# Altium schematic symbol library Lib Marius.SchLib: 259 symbols (part 1 of 3)
Pins are listed as number, name and electrical type; pins without a type are passive.

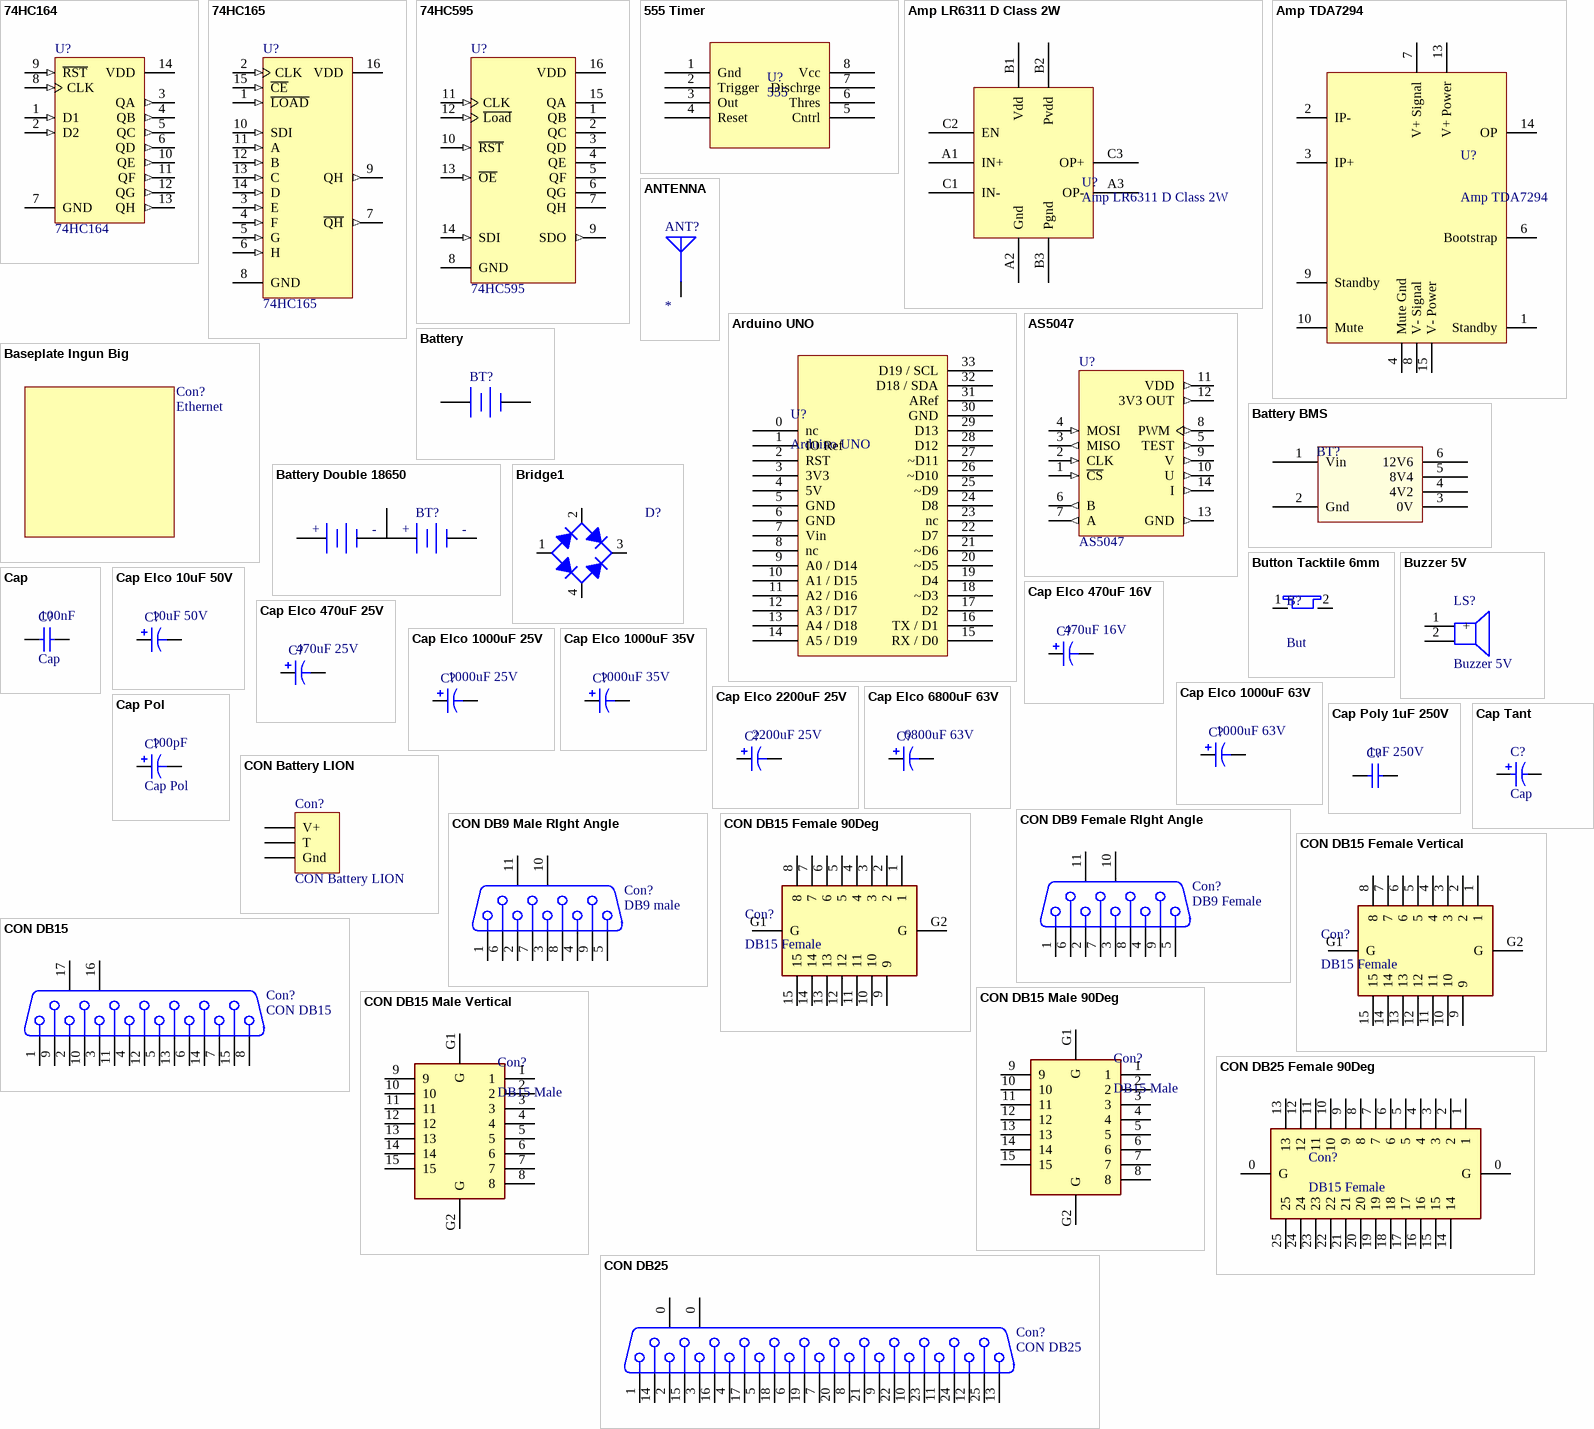
[diagram p0: symbols 74HC164 to CON DB25 Female 90Deg]

## 74HC164
designator U?
8-Bit Serial-Input/Parallel-Output Shift Register; Published: 17-Jul-2002; LatestRevisionDate: 06-Jun-2005; LatestRevisionNote: Stylized 3D Model Added; DatasheetVersion: 1989; PackageReference: 632-08; Publisher: Altium Limited; PackageDescription: DIP; 14 Leads; Row Spacing 7.62 mm; Pitch 2.54 mm; ComponentLink1Description: Manufacturer Link; ComponentLink1URL: http://www.onsemi.com/site/products/parametrics/0,4446,557,00.html
signal-integrity model MC54HC164J
footprint SOIC-14 (SOIC, 14-Leads, Body 8.7x3.9mm, Pitch 1.27mm, IPC Low Density)
3D model SOIC-14 (PCB3D Model)
pins: 1 D1 (in), 2 D2 (in), 3 QA (out), 4 QB (out), 5 QC (out), 6 QD (out), 7 GND (power), 8 CLK (in), 9 ~{RST} (in), 10 QE (out), 11 QF (out), 12 QG (out), 13 QH (out), 14 VDD (power)

## 74HC165
designator U?
8-Bit Serial-or-Parallel-Input/Serial-Output Shift Register; Published: 17-Jul-2002; LatestRevisionDate: 06-Jun-2005; LatestRevisionNote: Stylized 3D Model Added; DatasheetVersion: 1989; PackageReference: 620-09; Publisher: Altium Limited; PackageDescription: DIP; 16 Leads; Row Spacing 7.62 mm; Pitch 2.54 mm; Code_JEDEC: MS-001-BB; ComponentLink1Description: Manufacturer Link; ComponentLink1URL: http://www.onsemi.com/site/products/parametrics/0,4446,557,00.html
footprint SOIC 16 (SOIC, 16-Leads, Body 10.0x4.0mm (max), Pitch 1.27mm, IPC Medium Density)
pins: 1 ~{LOAD} (in), 2 CLK (in), 3 E (in), 4 F (in), 5 G (in), 6 H (in), 7 ~{QH} (out), 8 GND (power), 9 QH (out), 10 SDI (in), 11 A (in), 12 B (in), 13 C (in), 14 D (in), 15 ~{CE} (in), 16 VDD (power)

## 74HC595
designator U?
8-Bit Serial-Input/Serial-orShift Register with Latched 3-State Outputs; Published: 17-Jul-2002; LatestRevisionDate: 06-Jun-2005; LatestRevisionNote: Stylized 3D Model Added; DatasheetVersion: 1989; PackageReference: 620-09; Publisher: Altium Limited; PackageDescription: DIP; 16 Leads; Row Spacing 7.62 mm; Pitch 2.54 mm; Code_JEDEC: MS-001-BB; ComponentLink1Description: Manufacturer Link; ComponentLink1URL: http://www.onsemi.com/site/products/parametrics/0,4446,557,00.html
footprint SOIC 16 (SOIC, 16-Leads, Body 10.0x4.0mm (max), Pitch 1.27mm, IPC Medium Density)
pins: 1 QB (hiz), 2 QC (hiz), 3 QD (hiz), 4 QE (hiz), 5 QF (hiz), 6 QG (hiz), 7 QH (hiz), 8 GND (power), 9 SDO (out), 10 ~{RST} (in), 11 CLK (in), 12 ~{Load} (in), 13 ~{OE} (in), 14 SDI (in), 15 QA (hiz), 16 VDD (power)

## 555 Timer
designator U?, comment 555
Timer; Published: 8-Jun-2000; LatestRevisionDate: 29-May-2009; LatestRevisionNote: IPC-7351 Footprint Added.; PackageVersion: Aug-1999; PackageReference: SOT-23B; Publisher: Altium Limited; PackageDescription: 3-Pin SOT-23 Package 0.95 mm Pitch, 2.4 mm Lead Span; Supplier 1: Newark; Supplier Part Number 1: 45J1498
simulation model PNP
signal-integrity model PNP
footprint DIP-8 (DIP; 8 Leads; Row Spacing 7.62 mm; Pitch 2.54 mm)
pins: 1 Gnd, 2 Trigger, 3 Out, 4 Reset, 5 Cntrl, 6 Thres, 7 Dischrge, 8 Vcc

## Amp LR6311 D Class 2W
designator U?
Class D Amplifier; Published: 8-Jun-2000; LatestRevisionDate: 29-May-2009; LatestRevisionNote: Sch pins A & K swapped.; DatasheetVersion: E2732B; PackageReference: D-38; Publisher: Altium Limited; PackageDescription: Bridge Rectifier; 4 Terminals; Body 9.4 x 9.4 mm (typ); Pitch 5.08 mm
footprint LC6311 (Amplifier D Class)
pins: A1 IN+, A2 Gnd, A3 OP-, B1 Vdd, B2 Pvdd, B3 Pgnd, C1 IN-, C2 EN, C3 OP+

## Amp TDA7294
designator U?
100W Amplifier Class AB; Published: 8-Jun-2000; LatestRevisionDate: 17-Jul-2002; LatestRevisionNote: Re-released for DXP Platform.; PackageReference: RAD-0.3; Publisher: Altium Limited; PackageDescription: Radial Cap, Thru-Hole; 2 Leads; 0.3 in Pin Spacing
footprint Multiwatt15
pins: 1 Standby, 2 IP-, 3 IP+, 4 Mute Gnd, 6 Bootstrap, 7 V+ Signal, 8 V- Signal, 9 Standby, 10 Mute, 13 V+ Power, 14 OP, 15 V- Power

## ANTENNA
designator ANT?
footprint PATCH_ANTENNA
pins: 1

## Arduino UNO
designator U?
footprint Arduino UNO (Arduino)
pins: 0 nc, 1 IO Ref, 2 RST, 3 3V3, 4 5V, 5 GND, 6 GND, 7 Vin, 8 nc, 9 A0 / D14, 10 A1 / D15, 11 A2 / D16, 12 A3 / D17, 13 A4 / D18, 14 A5 / D19, 15 RX / D0, 16 TX / D1, 17 D2, 18 ~D3, 19 D4, 20 ~D5, 21 ~D6, 22 D7, 23 nc, 24 D8, 25 ~D9, 26 ~D10, 27 ~D11, 28 D12, 29 D13, 30 GND, 31 ARef, 32 D18 / SDA, 33 D19 / SCL

## AS5047
designator U?
14Bit Rotation Hall Effect Sensor; Published: 17-Jul-2002; LatestRevisionDate: 06-Jun-2005; LatestRevisionNote: Stylized 3D Model Added; DatasheetVersion: 1989; PackageReference: 632-08; Publisher: Altium Limited; PackageDescription: DIP; 14 Leads; Row Spacing 7.62 mm; Pitch 2.54 mm; ComponentLink1Description: Manufacturer Link; ComponentLink1URL: http://www.onsemi.com/site/products/parametrics/0,4446,557,00.html
footprint SOIC 14 Wide (SOIC, 14-Leads, Body 5 x 4.4mm (max), Pitch 0.65mm)
pins: 1 ~{CS} (in), 2 CLK (in), 3 MISO (out), 4 MOSI (in), 5 TEST (out), 6 B (out), 7 A (out), 8 PWM (out), 9 V (out), 10 U (out), 11 VDD (out), 12 3V3 OUT (out), 13 GND (out), 14 I (out)

## Baseplate Ingun Big
designator Con?, comment Ethernet
Receptacle Assembly, 9 Position, Right Angle; PackageDocument: O; Positions: 9; Published: 15-Jun-2001; LatestRevisionDate: 17-Jul-2002; LatestRevisionNote: Re-released for DXP Platform.; DatasheetDocument: 1-Sep-1999; PackageReference: 788750; Publisher: Altium Limited; Orientation: Right Angle; Gender: Receptacle
signal-integrity model Connector
footprint CON Ethernet with Transorfmer (Ethernet with LED and transformer)

## Battery
designator BT?
Multicell Battery; Published: 24-Mar-1999; LatestRevisionDate: 17-Jul-2002; LatestRevisionNote: Re-released for DXP Platform.; PackageReference: BAT-2; Publisher: Altium Limited; PackageDescription: Battery; 2 Leads
footprint Battery CR2032 (Axial Device, Thru-Hole; 2 Leads; 7.5mm Pin Spacing)
footprint Battery LR44 SMD (Axial Device, Thru-Hole; 2 Leads; 7.5mm Pin Spacing)
footprint Battery LR44 SMD2 (Axial Device, Thru-Hole; 2 Leads; 7.5mm Pin Spacing)
footprint Battery Holder 18650 (Single 18650 Lithium battery holder)
pins: 1 +, 2 -

## Battery BMS
designator BT?
Multicell Battery; Published: 24-Mar-1999; LatestRevisionDate: 17-Jul-2002; LatestRevisionNote: Re-released for DXP Platform.; PackageReference: BAT-2; Publisher: Altium Limited; PackageDescription: Battery; 2 Leads
footprint Battery BMS (Multicell charger board)
pins: 1 Vin, 2 Gnd, 3 0V, 4 4V2, 5 8V4, 6 12V6

## Battery Double 18650
designator BT?
Multicell Lithium Battery; Published: 24-Mar-1999; LatestRevisionDate: 17-Jul-2002; LatestRevisionNote: Re-released for DXP Platform.; PackageReference: BAT-2; Publisher: Altium Limited; PackageDescription: Battery; 2 Leads
footprint Battery Holder 18650 (Double 18650 Lithium battery holder)
pins: 1 Pos, 2 Join, 3 Neg
text: +; -

## Bridge1
designator D?
Full Wave Diode Bridge; Published: 8-Jun-2000; LatestRevisionDate: 29-May-2009; LatestRevisionNote: Sch pins A & K swapped.; DatasheetVersion: E2732B; PackageReference: D-38; Publisher: Altium Limited; PackageDescription: Bridge Rectifier; 4 Terminals; Body 9.4 x 9.4 mm (typ); Pitch 5.08 mm
simulation model BRIDGE (Spice Subcircuit)
footprint Bridge 10.67 (Bridge Rectifier; 4 Terminals; Body 16.8 x 16.8 mm (typ); Pitch 10.67 mm)
footprint Brigde 5.98 (Bridge Rectifier; 4 Terminals; Body 9.4 x 9.4 mm (typ); Pitch 5.08 mm)
footprint Bridge 2A 2W10 (Axial Device, Thru-Hole; 2 Leads; 10.2mm Pin Spacing)
footprint Bridge SMD 1A (SMD DFS)
pins: 1 K, 2 C, 3 A, 4 C

## Button Tacktile 6mm
designator B?, comment But
Capacitor; Published: 8-Jun-2000; LatestRevisionDate: 17-Jul-2002; LatestRevisionNote: Re-released for DXP Platform.; PackageReference: RAD-0.3; Publisher: Altium Limited; PackageDescription: Radial Cap, Thru-Hole; 2 Leads; 0.3 in Pin Spacing
footprint Button Tack 5mm (Axial Device, Thru-Hole; 2 Leads; 10.2mm Pin Spacing)
pins: 1 Gnd, 2 Gnd

## Buzzer 5V
designator LS?
Buzzer; Published: 24-Mar-1999; LatestRevisionDate: 17-Jul-2002; LatestRevisionNote: Re-released for DXP Platform.; PackageReference: PIN2; Publisher: Altium Limited
footprint BUZZER 12mm 5V (Buzzer 12mm)
pins: 1 +, 2

## Cap
designator C?  value 100nF
Capacitor; Published: 8-Jun-2000; LatestRevisionDate: 17-Jul-2002; LatestRevisionNote: Re-released for DXP Platform.; PackageReference: RAD-0.3; Publisher: Altium Limited; PackageDescription: Radial Cap, Thru-Hole; 2 Leads; 0.3 in Pin Spacing
simulation model CAP (Capacitor)
signal-integrity model Cap
footprint Cap Ceramic 0.1uF (Capacitor Ceramic)
footprint Cap 0603 (Capacitor 0603)
footprint Cap 0805 (Capacitor 0805)
footprint Cap 1206 (Capacitor 1206)
footprint Cap 1210 (Capacitor 1210)
footprint Cap Poly 12x7 (Capacitor Polyester)
footprint Cap Poly 14x9 (Capacitor Polyester)
footprint Cap Poly 18x12 (Capacitor Polyester)
footprint Cap Poly 28x14 (Capacitor Polyester)
pins: 1, 2

## Cap Elco 10uF 50V
designator C?, comment value 10uF 50V  (hidden comment: Cap Elco)
Polarized Capacitor (Axial); Published: 8-Jun-2000; LatestRevisionDate: 17-Jul-2002; LatestRevisionNote: Re-released for DXP Platform.; PackageReference: POLAR0.8; Publisher: Altium Limited; PackageDescription: Polarized Capacitor; 2 Leads
simulation model CAP (Capacitor)
footprint Cap D5xH7xP2 (Capacitor Electro)
pins: 1, 2
1 alternate drawing of the same symbol

## Cap Elco 470uF 16V
designator C?, comment value 470uF 16V  (hidden comment: 1000uF 16V)
Polarized Capacitor; Published: 8-Jun-2000; LatestRevisionDate: 17-Jul-2002; LatestRevisionNote: Re-released for DXP Platform.; PackageReference: POLAR0.8; Publisher: Altium Limited; PackageDescription: Polarized Capacitor; 2 Leads
simulation model CAP (Capacitor)
footprint Cap D8xH11xP3.5 (Capacitor Electro)
pins: 1, 2
1 alternate drawing of the same symbol

## Cap Elco 470uF 25V
designator C?, comment value 470uF 25V  (hidden comment: 1000uF 25V)
Polarized Capacitor; Published: 8-Jun-2000; LatestRevisionDate: 17-Jul-2002; LatestRevisionNote: Re-released for DXP Platform.; PackageReference: POLAR0.8; Publisher: Altium Limited; PackageDescription: Polarized Capacitor; 2 Leads
simulation model CAP (Capacitor)
footprint Cap D10xH16xP5 (Capacitor Electro)
pins: 1, 2
1 alternate drawing of the same symbol

## Cap Elco 1000uF 25V
designator C?, comment 1000uF 25V
Polarized Capacitor; Published: 8-Jun-2000; LatestRevisionDate: 17-Jul-2002; LatestRevisionNote: Re-released for DXP Platform.; PackageReference: POLAR0.8; Publisher: Altium Limited; PackageDescription: Polarized Capacitor; 2 Leads; Value: 1000uF 25V
simulation model CAP (Capacitor)
footprint Cap D12xH30xP5 (Capacitor Electro)
pins: 1, 2
1 alternate drawing of the same symbol

## Cap Elco 1000uF 35V
designator C?, comment 1000uF 35V
Polarized Capacitor (Axial); Published: 8-Jun-2000; LatestRevisionDate: 17-Jul-2002; LatestRevisionNote: Re-released for DXP Platform.; PackageReference: POLAR0.8; Publisher: Altium Limited; PackageDescription: Polarized Capacitor; 2 Leads; Value: 1000uF 35V
simulation model CAP (Capacitor)
footprint Cap D16xH31xP7.5 (Capacitor Electro)
pins: 1, 2
1 alternate drawing of the same symbol

## Cap Elco 1000uF 63V
designator C?, comment 1000uF 63V
Polarized Capacitor (Axial); Published: 8-Jun-2000; LatestRevisionDate: 17-Jul-2002; LatestRevisionNote: Re-released for DXP Platform.; PackageReference: POLAR0.8; Publisher: Altium Limited; PackageDescription: Polarized Capacitor; 2 Leads; Value: 1000uF 63V
simulation model CAP (Capacitor)
footprint Cap D16xH31xP7.5 (Capacitor Electro)
pins: 1, 2
1 alternate drawing of the same symbol

## Cap Elco 2200uF 25V
designator C?, comment 2200uF 25V
Polarized Capacitor (Axial); Published: 8-Jun-2000; LatestRevisionDate: 17-Jul-2002; LatestRevisionNote: Re-released for DXP Platform.; PackageReference: POLAR0.8; Publisher: Altium Limited; PackageDescription: Polarized Capacitor; 2 Leads; Value: 2200uF 25V
simulation model CAP (Capacitor)
footprint Cap D16xH31xP7.5 (Capacitor Electro)
footprint Cap D12xH30xP5 (Capacitor Electro)
pins: 1, 2
1 alternate drawing of the same symbol

## Cap Elco 6800uF 63V
designator C?, comment 6800uF 63V
Polarized Capacitor (Axial); Published: 8-Jun-2000; LatestRevisionDate: 17-Jul-2002; LatestRevisionNote: Re-released for DXP Platform.; PackageReference: POLAR0.8; Publisher: Altium Limited; PackageDescription: Polarized Capacitor; 2 Leads; Value: 6800uF 63V
simulation model CAP (Capacitor)
footprint Cap D35xH45xP10 (Capacitor Electro)
pins: 1, 2
1 alternate drawing of the same symbol

## Cap Pol
designator C?  value 100pF
Polarized Capacitor (Axial); Published: 8-Jun-2000; LatestRevisionDate: 17-Jul-2002; LatestRevisionNote: Re-released for DXP Platform.; PackageReference: POLAR0.8; Publisher: Altium Limited; PackageDescription: Polarized Capacitor; 2 Leads
simulation model CAP (Capacitor)
signal-integrity model Cap Pol
footprint Cap D5xH7xP2 (Capacitor Electro)
footprint Cap D6.3xH7xP2.5 (Capacitor Electro)
footprint Cap D6.3xH11xP2.5 (Capacitor Electro)
footprint Cap D8xH11xP3.5 (Capacitor Electro)
footprint Cap D10xH16xP5 (Capacitor Electro)
footprint Cap D16xH31xP5 (Capacitor Electro)
footprint Cap 0805 - pol (Capacitor 0805)
footprint Cap 1206 - pol (Capacitor 1206)
footprint Cap 1210 - pol (Capacitor 1210)
footprint Cap D30xH45xP10 (Capacitor Electro)
pins: 1, 2
1 alternate drawing of the same symbol

## Cap Poly 1uF 250V
designator C?, comment value 1uF 250V  (hidden comment: Cap Poly)
Capacitor; Published: 8-Jun-2000; LatestRevisionDate: 17-Jul-2002; LatestRevisionNote: Re-released for DXP Platform.; PackageReference: RAD-0.3; Publisher: Altium Limited; PackageDescription: Radial Cap, Thru-Hole; 2 Leads; 0.3 in Pin Spacing
simulation model CAP (Capacitor)
signal-integrity model Cap
footprint Cap Poly 15x12 (Capacitor Polyester 1uF 250V)
pins: 1, 2

## Cap Tant
designator C?, comment Cap
Capacitor; Value: 100nF; Published: 8-Jun-2000; LatestRevisionDate: 17-Jul-2002; LatestRevisionNote: Re-released for DXP Platform.; PackageReference: RAD-0.3; Publisher: Altium Limited; PackageDescription: Radial Cap, Thru-Hole; 2 Leads; 0.3 in Pin Spacing
simulation model CAP (Capacitor)
signal-integrity model Cap
footprint CAP Tant A (Molded Capacitor, 2-Leads, Body 3.2x1.6mm, IPC Medium Density)
footprint CAP tant B (Molded Capacitor, 2-Leads, Body 3.5x2.8mm, IPC Medium Density)
footprint CAP tant C (Molded Capacitor, 2-Leads, Body 6.0x3.2mm, IPC Medium Density)
footprint CAP tant D (Molded Capacitor, 2-Leads, Body 7.3x4.3mm, IPC Medium Density)
pins: 1, 2

## CON Battery LION
designator Con?
Header, 3-Pin; LatestRevisionDate: 17-Jul-2002; LatestRevisionNote: Re-released for DXP Platform.; Publisher: Altium Limited
footprint Battery Con 3Way
footprint Battery Con 3way SMD
pins: 1 Gnd, 2 T, 3 V+

## CON DB9 Female RIght Angle
designator Con?, comment DB9 Female
Receptacle Assembly, 9 Position, Right Angle; PackageDocument: O; Positions: 9; Published: 15-Jun-2001; LatestRevisionDate: 17-Jul-2002; LatestRevisionNote: Re-released for DXP Platform.; DatasheetDocument: 1-Sep-1999; PackageReference: 788750; Publisher: Altium Limited; Orientation: Right Angle; Gender: Receptacle
signal-integrity model Connector
footprint CON DB9 Female 90DEG (Connector, Dsub, 9-pin, Female)
pins: 1, 2, 3, 4, 5, 6, 7, 8, 9, 10 MH1, 11 MH2

## CON DB9 Male RIght Angle
designator Con?, comment DB9 male
Receptacle Assembly, 9 Position, Right Angle; PackageDocument: O; Positions: 9; Published: 15-Jun-2001; LatestRevisionDate: 17-Jul-2002; LatestRevisionNote: Re-released for DXP Platform.; DatasheetDocument: 1-Sep-1999; PackageReference: 788750; Publisher: Altium Limited; Orientation: Right Angle; Gender: Receptacle
signal-integrity model Connector
footprint CON DB9 Male 90DEG (Connector, Dsub, 9-pin, Male)
pins: 1, 2, 3, 4, 5, 6, 7, 8, 9, 10 MH1, 11 MH2

## CON DB15
designator Con?
Receptacle Assembly, 15 Position, Right Angle; PackageDocument: O; Positions: 15; Published: 15-Jun-2001; LatestRevisionDate: 17-Jul-2002; LatestRevisionNote: Re-released for DXP Platform.; DatasheetDocument: 1-Sep-99; PackageReference: 788757; Publisher: Altium Limited; Orientation: Right Angle; Gender: Receptacle
signal-integrity model Connector
pins: 1, 2, 3, 4, 5, 6, 7, 8, 9, 10, 11, 12, 13, 14, 15, 16 MH1, 17 MH2

## CON DB15 Female 90Deg
designator Con?, comment DB15 Female
Connector, DB15 Female 90 Degrees; Manufacturer_Name: HARTING; Manufacturer_Part_Number: 09662527611; Allied_Number: 70428171; Datasheet Link: http://au.rs-online.com/web/p/products/1602764P; Height: 13.6mm; RS Part Number: 1602764P; RS Price/Stock: http://au.rs-online.com/web/p/products/1602764P
footprint CON DB15 FEMALE 90DEG
pins: 1, 2, 3, 4, 5, 6, 7, 8, 9, 10, 11, 12, 13, 14, 15, G1 G, G2 G

## CON DB15 Female Vertical
designator Con?, comment DB15 Female
Connector, DB15 Female 90 Degrees; Manufacturer_Name: HARTING; Manufacturer_Part_Number: 09662527611; Allied_Number: 70428171; Datasheet Link: http://au.rs-online.com/web/p/products/1602764P; Height: 13.6mm; RS Part Number: 1602764P; RS Price/Stock: http://au.rs-online.com/web/p/products/1602764P
footprint CON DB15 Female VERT (Connectror; 2 Rows; 15 Position; Right Angle; Pitch 2.77 mm)
pins: 1, 2, 3, 4, 5, 6, 7, 8, 9, 10, 11, 12, 13, 14, 15, G1 G, G2 G

## CON DB15 Male 90Deg
designator Con?, comment DB15 Male
Connector; Manufacturer_Name: HARTING; Manufacturer_Part_Number: 09662626816; Datasheet Link: https://b2b.harting.com/files/download/PRD/PDF_TS/0966262X81X_100634418DRW000A.pdf?siteName=Ebusiness+Site&autoLogoutEnabled=true&autoLogoutTime=1800&showPrivacyEmailAgreement=false&contextURL=https%3A%2F%2Fb2b.harting.com%2Febusiness%2Fen_us; Height: 13.6mm; RS Part Number: 9235151; RS Price/Stock: https://uk.rs-online.com/web/p/products/9235151
footprint CON DB15 MALE 90DEG
pins: 1, 2, 3, 4, 5, 6, 7, 8, 9, 10, 11, 12, 13, 14, 15, G1 G, G2 G

## CON DB15 Male Vertical
designator Con?, comment DB15 Male
Connector; Manufacturer_Name: HARTING; Manufacturer_Part_Number: 09662626816; Datasheet Link: https://b2b.harting.com/files/download/PRD/PDF_TS/0966262X81X_100634418DRW000A.pdf?siteName=Ebusiness+Site&autoLogoutEnabled=true&autoLogoutTime=1800&showPrivacyEmailAgreement=false&contextURL=https%3A%2F%2Fb2b.harting.com%2Febusiness%2Fen_us; Height: 13.6mm; RS Part Number: 9235151; RS Price/Stock: https://uk.rs-online.com/web/p/products/9235151
footprint CON DB15 MALE VERT
pins: 1, 2, 3, 4, 5, 6, 7, 8, 9, 10, 11, 12, 13, 14, 15, G1 G, G2 G

## CON DB25
designator Con?
Receptacle Assembly, 25 Position, Right Angle; PackageDocument: U; Positions: 25; Published: 15-Jun-2001; LatestRevisionDate: 17-Jul-2002; LatestRevisionNote: Re-released for DXP Platform.; DatasheetDocument: 19-Mar-1999; PackageReference: 787202; Publisher: Altium Limited; Orientation: Right Angle; Gender: Receptacle
signal-integrity model Connector
footprint CON DB25 Female (Connector; D Subminiature; 25 Position; Right Angle; Pitch 1.385 mm)
pins: 0 MH2, 0 MH1, 1, 2, 3, 4, 5, 6, 7, 8, 9, 10, 11, 12, 13, 14, 15, 16, 17, 18, 19, 20, 21, 22, 23, 24, 25

## CON DB25 Female 90Deg
designator Con?, comment DB15 Female
Connector, DB15 Female 90 Degrees; Manufacturer_Name: HARTING; Manufacturer_Part_Number: 09662527611; Allied_Number: 70428171; Datasheet Link: http://au.rs-online.com/web/p/products/1602764P; Height: 13.6mm; RS Part Number: 1602764P; RS Price/Stock: http://au.rs-online.com/web/p/products/1602764P
footprint CON DB25 Female 90DEG (Connector; D Subminiature; 25 Position; Right Angle; Pitch 1.385 mm)
pins: 0 G, 0 G, 1, 2, 3, 4, 5, 6, 7, 8, 9, 10, 11, 12, 13, 14, 15, 16, 17, 18, 19, 20, 21, 22, 23, 24, 25

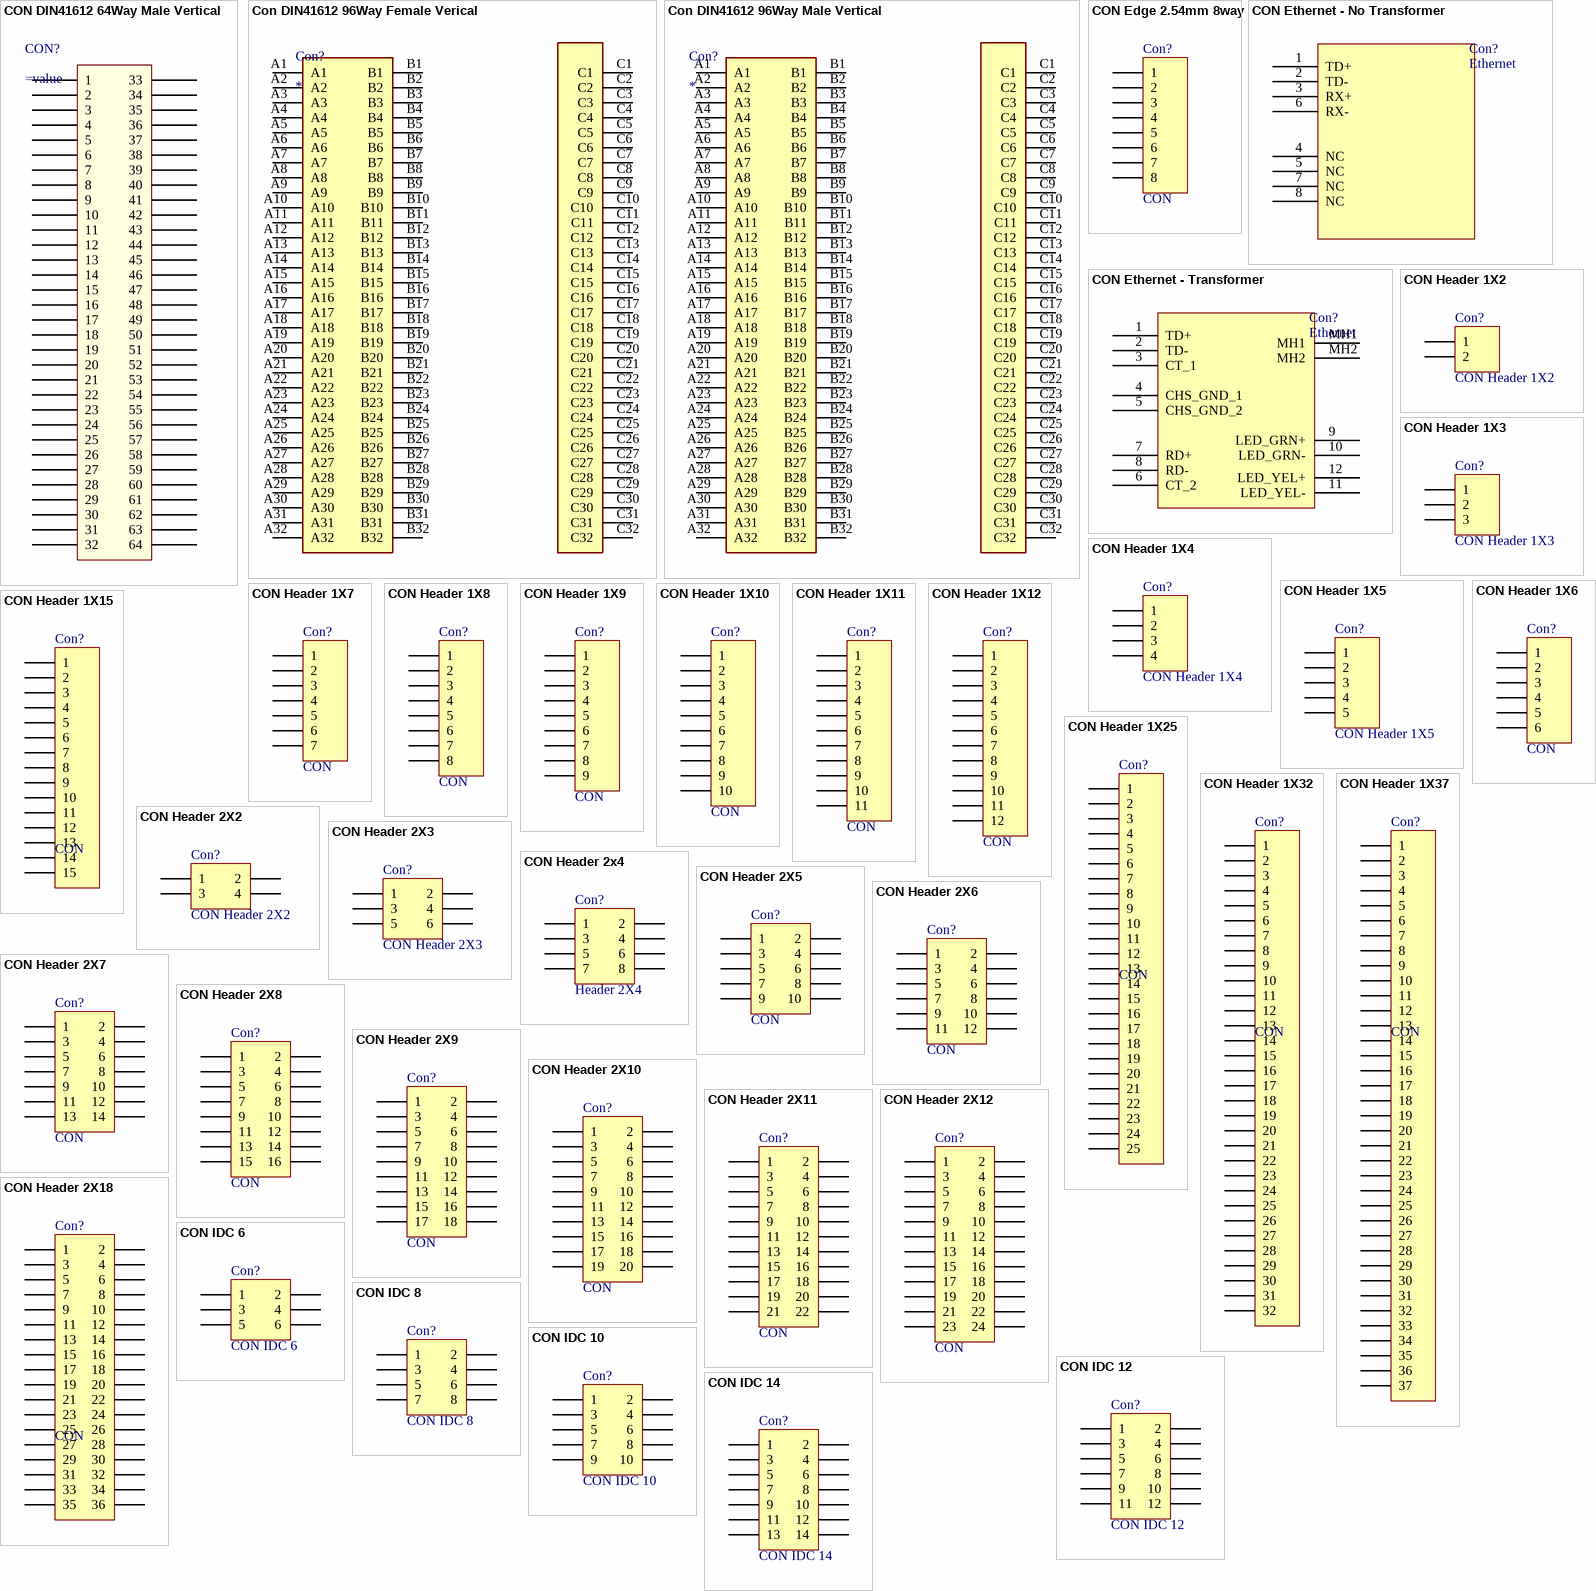
[diagram p1: symbols CON DIN41612 64Way Male Vertical to CON IDC 14]

## CON DIN41612 64Way Male Vertical
designator CON?
64 Position Din41612 Connector Header, Male Pins Through Hole
footprint Con DIN41612 64Way Male Vert (64 Position Din41612 Connector Header, Male Pins Through Hole)
pins: 1, 2, 3, 4, 5, 6, 7, 8, 9, 10, 11, 12, 13, 14, 15, 16, 17, 18, 19, 20, 21, 22, 23, 24, 25, 26, 27, 28, 29, 30, 31, 32, 33, 34, 35, 36, 37, 38, 39, 40, 41, 42, 43, 44, 45, 46, 47, 48, 49, 50, 51, 52, 53, 54, 55, 56, 57, 58, 59, 60, 61, 62, 63, 64

## Con DIN41612 96Way Female Verical
designator Con?
Connector; Manufacturer_Name: HARTING; Manufacturer_Part_Number: 09032962824; Datasheet Link: https://datasheet.datasheetarchive.com/originals/distributors/Datasheets-DGA6/513245.pdf; Height: 11.6mm; Mouser Part Number: 617-09032962824; Mouser Price/Stock: https://www.mouser.co.uk/ProductDetail/HARTING/09032962824?qs=UV5Tb6pF94WgM8aSlZk99g%3D%3D; Arrow Part Number: 09032962824; Arrow Price/Stock: https://www.arrow.com/en/products/09032962824/harting?region=nac
footprint Model Name (Model Description)
footprint Model Name (Model Description)
footprint Model Name (Model Description)
footprint CON DIN41612 96way Female Vert
pins: A1, A2, A3, A4, A5, A6, A7, A8, A9, A10, A11, A12, A13, A14, A15, A16, A17, A18, A19, A20, A21, A22, A23, A24, A25, A26, A27, A28, A29, A30, A31, A32, B1, B2, B3, B4, B5, B6, B7, B8, B9, B10, B11, B12, B13, B14, B15, B16, B17, B18, B19, B20, B21, B22, B23, B24, B25, B26, B27, B28, B29, B30, B31, B32, C1, C2, C3, C4, C5, C6, C7, C8, C9, C10, C11, C12, C13, C14, C15, C16, C17, C18, C19, C20, C21, C22, C23, C24, C25, C26, C27, C28, C29, C30, C31, C32

## Con DIN41612 96Way Male Vertical
designator Con?
DIN41612 96Way Male Vertical Connector; Manufacturer_Name: HARTING; Manufacturer_Part_Number: 09031962922; Datasheet Link: https://www.mouser.com/datasheet/2/179/09031200201_100580147DRW000B-1487289.pdf; Height: 10.1mm; Mouser Part Number: 617-09-03-196-2922; Mouser Price/Stock: https://www.mouser.co.uk/ProductDetail/HARTING/09031962922?qs=UV5Tb6pF94WGALiv%252BUbrVw%3D%3D; Arrow Part Number: 09031962922; Arrow Price/Stock: https://www.arrow.com/en/products/09031962922/harting
footprint Con DIN41612 96Way Male Vert
pins: A1, A2, A3, A4, A5, A6, A7, A8, A9, A10, A11, A12, A13, A14, A15, A16, A17, A18, A19, A20, A21, A22, A23, A24, A25, A26, A27, A28, A29, A30, A31, A32, B1, B2, B3, B4, B5, B6, B7, B8, B9, B10, B11, B12, B13, B14, B15, B16, B17, B18, B19, B20, B21, B22, B23, B24, B25, B26, B27, B28, B29, B30, B31, B32, C1, C2, C3, C4, C5, C6, C7, C8, C9, C10, C11, C12, C13, C14, C15, C16, C17, C18, C19, C20, C21, C22, C23, C24, C25, C26, C27, C28, C29, C30, C31, C32

## CON Edge 2.54mm 8way
designator Con?, comment CON
Phoenix 5mm 8-Pin; LatestRevisionDate: 17-Jul-2002; LatestRevisionNote: Re-released for DXP Platform.; Publisher: Altium Limited
footprint CON Edge 8 (2.54mm) (Edge connector 8 pin, 2.54mm)
signal-integrity model Connector
pins: 1, 2, 3, 4, 5, 6, 7, 8

## CON Ethernet - No Transformer
designator Con?, comment Ethernet
Receptacle Assembly, 9 Position, Right Angle; PackageDocument: O; Positions: 9; Published: 15-Jun-2001; LatestRevisionDate: 17-Jul-2002; LatestRevisionNote: Re-released for DXP Platform.; DatasheetDocument: 1-Sep-1999; PackageReference: 788750; Publisher: Altium Limited; Orientation: Right Angle; Gender: Receptacle
signal-integrity model Connector
footprint CON Eth No Transformer VERT (Ethernet Connector)
pins: 1 TD+, 2 TD-, 3 RX+, 4 NC, 5 NC, 6 RX-, 7 NC, 8 NC

## CON Ethernet - Transformer
designator Con?, comment Ethernet
Receptacle Assembly, 9 Position, Right Angle; PackageDocument: O; Positions: 9; Published: 15-Jun-2001; LatestRevisionDate: 17-Jul-2002; LatestRevisionNote: Re-released for DXP Platform.; DatasheetDocument: 1-Sep-1999; PackageReference: 788750; Publisher: Altium Limited; Orientation: Right Angle; Gender: Receptacle
signal-integrity model Connector
footprint CON Ethernet with Transorfmer (Ethernet with LED and transformer)
pins: 1 TD+, 2 TD-, 3 CT_1, 4 CHS_GND_1, 5 CHS_GND_2, 6 CT_2, 7 RD+, 8 RD-, 9 LED_GRN+, 10 LED_GRN-, 11 LED_YEL-, 12 LED_YEL+, MH1, MH2

## CON Header 1X2
designator Con?
Header, 2-Pin; LatestRevisionDate: 17-Jul-2002; LatestRevisionNote: Re-released for DXP Platform.; Publisher: Altium Limited
signal-integrity model Connector
footprint CON HDR1X2 (onnector, Header, Vertical: Lead Span 2.54mm; Lead Width 0.52; Pin Pitch 2.54; 2 X 1 Pins)
pins: 1, 2

## CON Header 1X3
designator Con?
Header, 3-Pin; LatestRevisionDate: 17-Jul-2002; LatestRevisionNote: Re-released for DXP Platform.; Publisher: Altium Limited
footprint CON HDR1X3 (Connector, Header, Vertical: Lead Span 2.54mm; Lead Width 0.52; Pin Pitch 2.54; 3 X 1 Pins)
signal-integrity model Connector
pins: 1, 2, 3

## CON Header 1X4
designator Con?
Header, 4-Pin; LatestRevisionDate: 17-Jul-2002; LatestRevisionNote: Re-released for DXP Platform.; Publisher: Altium Limited
footprint CON HDR1X4 (Connector, Header, Vertical: Lead Span 2.54mm; Lead Width 0.52; Pin Pitch 2.54; 4 X 1 Pins)
signal-integrity model Connector
pins: 1, 2, 3, 4

## CON Header 1X5
designator Con?
Header, 5-Pin; LatestRevisionDate: 17-Jul-2002; LatestRevisionNote: Re-released for DXP Platform.; Publisher: Altium Limited
footprint HDR1X5 (Connector; Header; 5 Position)
signal-integrity model Connector
pins: 1, 2, 3, 4, 5

## CON Header 1X6
designator Con?, comment CON
Header, 6-Pin; LatestRevisionDate: 17-Jul-2002; LatestRevisionNote: Re-released for DXP Platform.; Publisher: Altium Limited
footprint HDR1X6 (Connector; Header; 6 Position)
signal-integrity model Connector
pins: 1, 2, 3, 4, 5, 6

## CON Header 1X7
designator Con?, comment CON
Header, 7-Pin; LatestRevisionDate: 17-Jul-2002; LatestRevisionNote: Re-released for DXP Platform.; Publisher: Altium Limited
footprint HDR1X7 (Connector; Header; 7 Position)
signal-integrity model Connector
pins: 1, 2, 3, 4, 5, 6, 7

## CON Header 1X8
designator Con?, comment CON
Header, 8-Pin; LatestRevisionDate: 17-Jul-2002; LatestRevisionNote: Re-released for DXP Platform.; Publisher: Altium Limited
footprint HDR1X8 (Connector; Header; 8 Position)
signal-integrity model Connector
pins: 1, 2, 3, 4, 5, 6, 7, 8

## CON Header 1X9
designator Con?, comment CON
Header, 9-Pin; LatestRevisionDate: 17-Jul-2002; LatestRevisionNote: Re-released for DXP Platform.; Publisher: Altium Limited
footprint HDR1X9 (Connector; Header; 9 Position)
signal-integrity model Connector
pins: 1, 2, 3, 4, 5, 6, 7, 8, 9

## CON Header 1X10
designator Con?, comment CON
Header, 10-Pin; LatestRevisionDate: 17-Jul-2002; LatestRevisionNote: Re-released for DXP Platform.; Publisher: Altium Limited
footprint HDR1X10 (Connector; Header; 10 Position)
signal-integrity model Connector
pins: 1, 2, 3, 4, 5, 6, 7, 8, 9, 10

## CON Header 1X11
designator Con?, comment CON
Header, 11-Pin; LatestRevisionDate: 17-Jul-2002; LatestRevisionNote: Re-released for DXP Platform.; Publisher: Altium Limited
footprint HDR1X11 (Connector; Header; 11 Position)
signal-integrity model Connector
pins: 1, 2, 3, 4, 5, 6, 7, 8, 9, 10, 11

## CON Header 1X12
designator Con?, comment CON
Header, 12-Pin; LatestRevisionDate: 17-Jul-2002; LatestRevisionNote: Re-released for DXP Platform.; Publisher: Altium Limited
footprint HDR1X12 (Connector; Header; 12 Position)
signal-integrity model Connector
pins: 1, 2, 3, 4, 5, 6, 7, 8, 9, 10, 11, 12

## CON Header 1X15
designator Con?, comment CON
Header, 15-Pin; LatestRevisionDate: 17-Jul-2002; LatestRevisionNote: Re-released for DXP Platform.; Publisher: Altium Limited
footprint HDR1X12 (Connector; Header; 12 Position)
signal-integrity model Connector
pins: 1, 2, 3, 4, 5, 6, 7, 8, 9, 10, 11, 12, 13, 14, 15

## CON Header 1X25
designator Con?, comment CON
Header, 25-Pin; LatestRevisionDate: 17-Jul-2002; LatestRevisionNote: Re-released for DXP Platform.; Publisher: Altium Limited
footprint HDR1X12 (Connector; Header; 12 Position)
signal-integrity model Connector
pins: 1, 2, 3, 4, 5, 6, 7, 8, 9, 10, 11, 12, 13, 14, 15, 16, 17, 18, 19, 20, 21, 22, 23, 24, 25

## CON Header 1X32
designator Con?, comment CON
Header, 32-Pin; LatestRevisionDate: 17-Jul-2002; LatestRevisionNote: Re-released for DXP Platform.; Publisher: Altium Limited
footprint HDR1X12 (Connector; Header; 12 Position)
signal-integrity model Connector
pins: 1, 2, 3, 4, 5, 6, 7, 8, 9, 10, 11, 12, 13, 14, 15, 16, 17, 18, 19, 20, 21, 22, 23, 24, 25, 26, 27, 28, 29, 30, 31, 32

## CON Header 1X37
designator Con?, comment CON
Header, 37-Pin; LatestRevisionDate: 17-Jul-2002; LatestRevisionNote: Re-released for DXP Platform.; Publisher: Altium Limited
footprint HDR1X12 (Connector; Header; 12 Position)
signal-integrity model Connector
pins: 1, 2, 3, 4, 5, 6, 7, 8, 9, 10, 11, 12, 13, 14, 15, 16, 17, 18, 19, 20, 21, 22, 23, 24, 25, 26, 27, 28, 29, 30, 31, 32, 33, 34, 35, 36, 37

## CON Header 2X2
designator Con?
Header, 2-Pin, Dual row; LatestRevisionDate: 17-Jul-2002; LatestRevisionNote: Re-released for DXP Platform.; Publisher: Altium Limited
signal-integrity model Connector
footprint CON HDR2X2 (Connector, Header, Vertical: Lead Span 2.54mm; Lead Width 0.52; Pin Pitch 2.54; 2 X 2 Pins)
pins: 1, 2, 3, 4

## CON Header 2X3
designator Con?
Header, 3-Pin, Dual row; LatestRevisionDate: 17-Jul-2002; LatestRevisionNote: Re-released for DXP Platform.; Publisher: Altium Limited
signal-integrity model Connector
footprint CON HDR2X3 (Connector, Header, Vertical: Lead Span 2.54mm; Lead Width 0.52; Pin Pitch 2.54; 2 X 3 Pins)
pins: 1, 2, 3, 4, 5, 6

## CON Header 2x4
designator Con?, comment Header 2X4
Header, 4-Pin, Dual row; LatestRevisionDate: 17-Jul-2002; LatestRevisionNote: Re-released for DXP Platform.; Publisher: Altium Limited
footprint CON HDR2X4 (Connector, Header, Vertical, 2.54mm pitch, 2 X 4 pins)
signal-integrity model Connector
pins: 1, 2, 3, 4, 5, 6, 7, 8

## CON Header 2X5
designator Con?, comment CON
Header, 5-Pin, Dual row; LatestRevisionDate: 17-Jul-2002; LatestRevisionNote: Re-released for DXP Platform.; Publisher: Altium Limited
footprint HDR2X5 (Connector; Header; 5x2 Position)
signal-integrity model Connector
pins: 1, 2, 3, 4, 5, 6, 7, 8, 9, 10

## CON Header 2X6
designator Con?, comment CON
Header, 6-Pin, Dual row; LatestRevisionDate: 17-Jul-2002; LatestRevisionNote: Re-released for DXP Platform.; Publisher: Altium Limited
footprint HDR2X6 (Connector; Header; 6x2 Position)
signal-integrity model Connector
pins: 1, 2, 3, 4, 5, 6, 7, 8, 9, 10, 11, 12

## CON Header 2X7
designator Con?, comment CON
Header, 7-Pin, Dual row; LatestRevisionDate: 17-Jul-2002; LatestRevisionNote: Re-released for DXP Platform.; Publisher: Altium Limited
footprint HDR2X7 (Connector; Header; 7x2 Position)
signal-integrity model Connector
pins: 1, 2, 3, 4, 5, 6, 7, 8, 9, 10, 11, 12, 13, 14

## CON Header 2X8
designator Con?, comment CON
Header, 8-Pin, Dual row; LatestRevisionDate: 17-Jul-2002; LatestRevisionNote: Re-released for DXP Platform.; Publisher: Altium Limited
footprint HDR2X8 (Connector; Header; 8x2 Position)
signal-integrity model Connector
pins: 1, 2, 3, 4, 5, 6, 7, 8, 9, 10, 11, 12, 13, 14, 15, 16

## CON Header 2X9
designator Con?, comment CON
Header, 9-Pin, Dual row; LatestRevisionDate: 17-Jul-2002; LatestRevisionNote: Re-released for DXP Platform.; Publisher: Altium Limited
footprint HDR2X9 (Connector; Header; 9x2 Position)
signal-integrity model Connector
pins: 1, 2, 3, 4, 5, 6, 7, 8, 9, 10, 11, 12, 13, 14, 15, 16, 17, 18

## CON Header 2X10
designator Con?, comment CON
Header, 10-Pin, Dual row; LatestRevisionDate: 17-Jul-2002; LatestRevisionNote: Re-released for DXP Platform.; Publisher: Altium Limited
footprint HDR2X10 (Connector; Header; 10x2 Position)
signal-integrity model Connector
pins: 1, 2, 3, 4, 5, 6, 7, 8, 9, 10, 11, 12, 13, 14, 15, 16, 17, 18, 19, 20

## CON Header 2X11
designator Con?, comment CON
Header, 11-Pin, Dual row; LatestRevisionDate: 17-Jul-2002; LatestRevisionNote: Re-released for DXP Platform.; Publisher: Altium Limited
footprint HDR2X11 (Connector; Header; 11x2 Position)
signal-integrity model Connector
pins: 1, 2, 3, 4, 5, 6, 7, 8, 9, 10, 11, 12, 13, 14, 15, 16, 17, 18, 19, 20, 21, 22

## CON Header 2X12
designator Con?, comment CON
Header, 12-Pin, Dual row; LatestRevisionDate: 17-Jul-2002; LatestRevisionNote: Re-released for DXP Platform.; Publisher: Altium Limited
footprint HDR2X12 (Connector; Header; 12x2 Position)
signal-integrity model Connector
pins: 1, 2, 3, 4, 5, 6, 7, 8, 9, 10, 11, 12, 13, 14, 15, 16, 17, 18, 19, 20, 21, 22, 23, 24

## CON Header 2X18
designator Con?, comment CON
Header, 12-Pin, Dual row; LatestRevisionDate: 17-Jul-2002; LatestRevisionNote: Re-released for DXP Platform.; Publisher: Altium Limited
signal-integrity model Connector
footprint CON HDR2X18 (Connector, Header, Vertical, 2.54mm pitch, 2 X 18 pins)
pins: 1, 2, 3, 4, 5, 6, 7, 8, 9, 10, 11, 12, 13, 14, 15, 16, 17, 18, 19, 20, 21, 22, 23, 24, 25, 26, 27, 28, 29, 30, 31, 32, 33, 34, 35, 36

## CON IDC 6
designator Con?
IDC 6 PIN; LatestRevisionDate: 17-Jul-2002; LatestRevisionNote: Re-released for DXP Platform.; Publisher: Altium Limited
footprint CON IDC-6 (Connector; IDC; 5x2 Position)
pins: 1, 2, 3, 4, 5, 6

## CON IDC 8
designator Con?
IDC 8 PIN; LatestRevisionDate: 17-Jul-2002; LatestRevisionNote: Re-released for DXP Platform.; Publisher: Altium Limited
footprint HDR2X4 (Connector; Header; 4x2 Position)
signal-integrity model Connector
pins: 1, 2, 3, 4, 5, 6, 7, 8

## CON IDC 10
designator Con?
Header, 5-Pin, Dual row; LatestRevisionDate: 17-Jul-2002; LatestRevisionNote: Re-released for DXP Platform.; Publisher: Altium Limited
signal-integrity model Connector
footprint CON IDC-10 (Connector; IDC; 5x2 Position)
footprint CON IDC-10 H (Connector; IDC; 5x2 Position)
pins: 1, 2, 3, 4, 5, 6, 7, 8, 9, 10

## CON IDC 12
designator Con?
Header, 6-Pin, Dual row; LatestRevisionDate: 17-Jul-2002; LatestRevisionNote: Re-released for DXP Platform.; Publisher: Altium Limited
signal-integrity model Connector
footprint CON IDC-12 (Connector; IDC; 5x2 Position)
pins: 1, 2, 3, 4, 5, 6, 7, 8, 9, 10, 11, 12

## CON IDC 14
designator Con?
Header, 7-Pin, Dual row; LatestRevisionDate: 17-Jul-2002; LatestRevisionNote: Re-released for DXP Platform.; Publisher: Altium Limited
signal-integrity model Connector
footprint CON IDC-14 (Connector; IDC; 5x2 Position)
footprint CON IDC-14 H EJECT (Connector, IDC, 14pin, Ejector)
pins: 1, 2, 3, 4, 5, 6, 7, 8, 9, 10, 11, 12, 13, 14

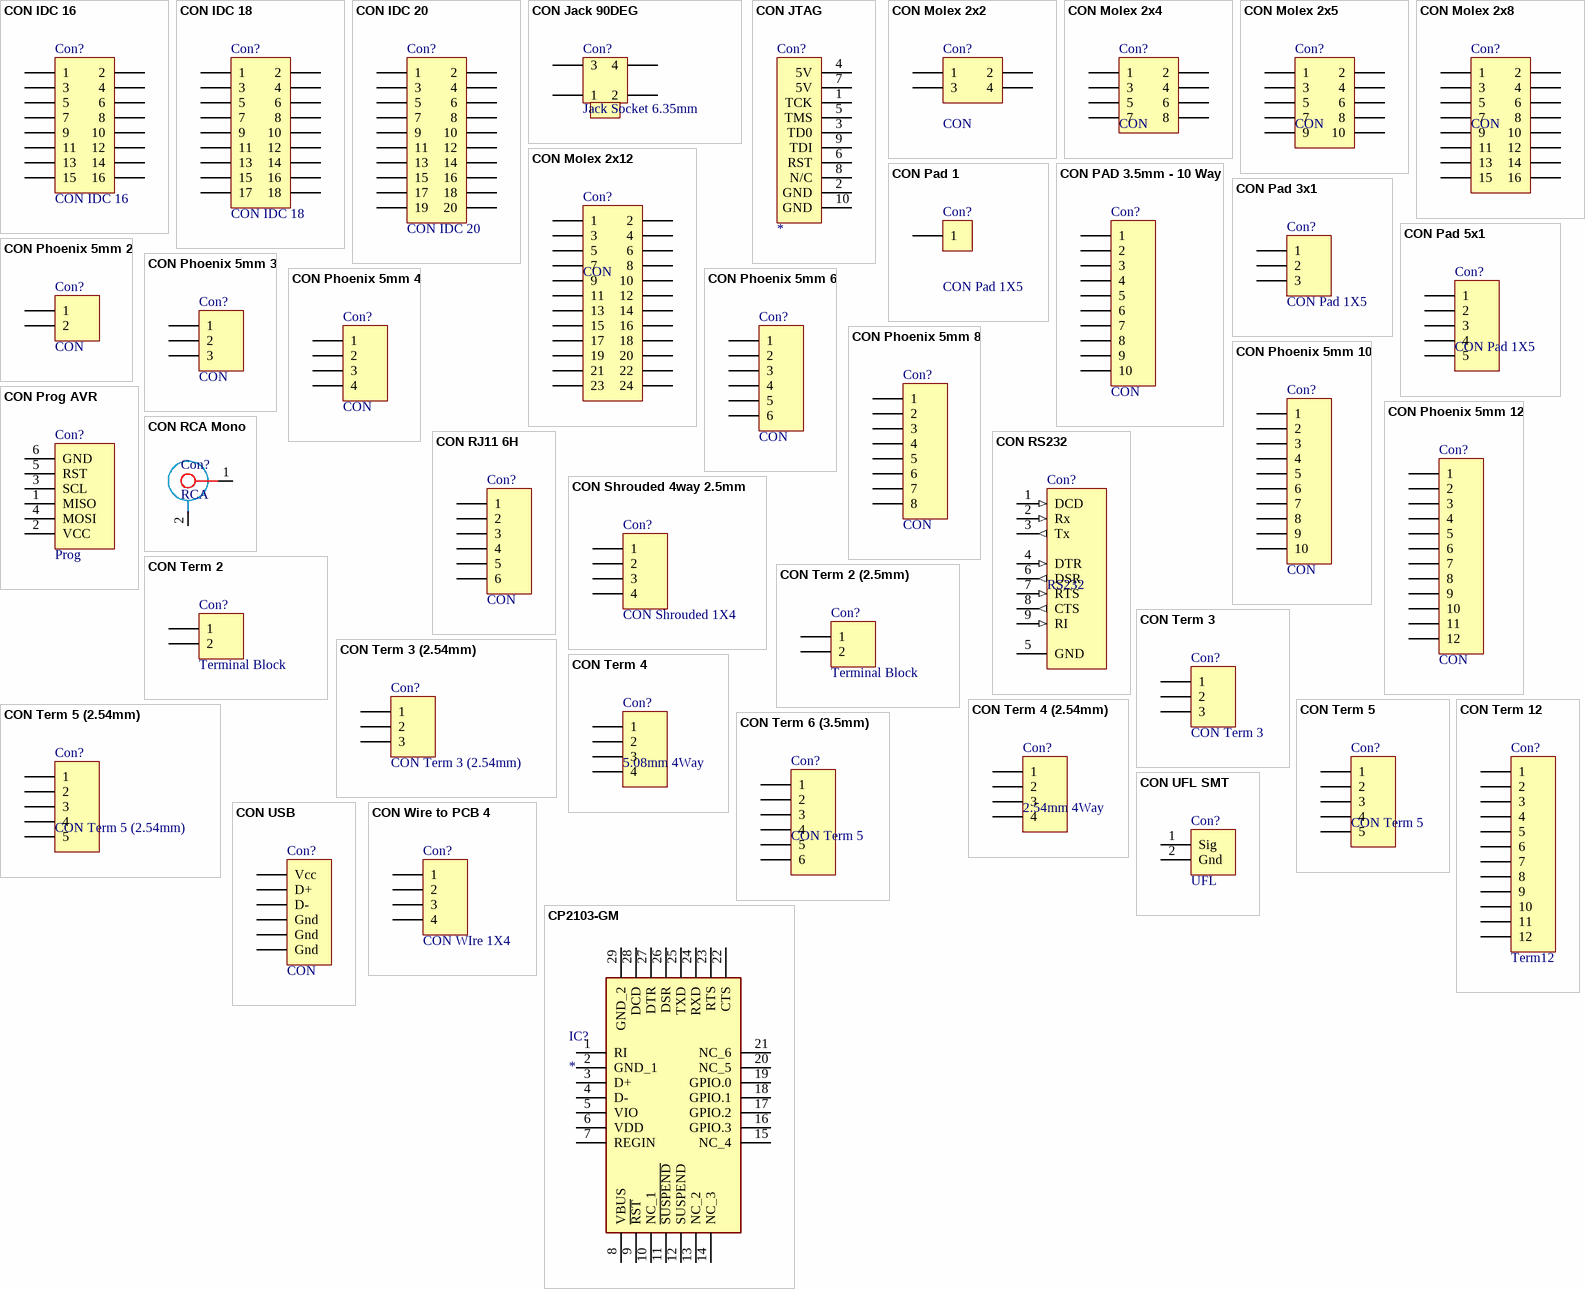
[diagram p2: symbols CON IDC 16 to CP2103-GM]

## CON IDC 16
designator Con?
Header, 8-Pin, Dual row; LatestRevisionDate: 17-Jul-2002; LatestRevisionNote: Re-released for DXP Platform.; Publisher: Altium Limited
signal-integrity model Connector
footprint CON IDC-16 (Connector; IDC; 5x2 Position)
footprint CON IDC-16 EJECT (Connector, header , 16pin, Ejector)
pins: 1, 2, 3, 4, 5, 6, 7, 8, 9, 10, 11, 12, 13, 14, 15, 16

## CON IDC 18
designator Con?
Header, 9-Pin, Dual row; LatestRevisionDate: 17-Jul-2002; LatestRevisionNote: Re-released for DXP Platform.; Publisher: Altium Limited
footprint HDR2X9 (Connector; Header; 9x2 Position)
signal-integrity model Connector
pins: 1, 2, 3, 4, 5, 6, 7, 8, 9, 10, 11, 12, 13, 14, 15, 16, 17, 18

## CON IDC 20
designator Con?
Header, 10-Pin, Dual row; LatestRevisionDate: 17-Jul-2002; LatestRevisionNote: Re-released for DXP Platform.; Publisher: Altium Limited
footprint HDR2X10 (Connector; Header; 10x2 Position)
signal-integrity model Connector
pins: 1, 2, 3, 4, 5, 6, 7, 8, 9, 10, 11, 12, 13, 14, 15, 16, 17, 18, 19, 20

## CON Jack 90DEG
designator Con?, comment Jack Socket 6.35mm
LatestRevisionDate: 17-Jul-2002; LatestRevisionNote: Re-released for DXP Platform.; Publisher: Altium Limited
signal-integrity model Connector
footprint JACK 6.35mm 90DEG
pins: 1, 2, 3, 4

## CON JTAG
designator Con?
JTag Connector
footprint CON IDC-10 (Connector; IDC; 5x2 Position)
pins: 1 TCK, 2 GND, 3 TD0, 4 5V, 5 TMS, 6 RST, 7 5V, 8 N/C, 9 TDI, 10 GND

## CON Molex 2x2
designator Con?, comment CON
Molex 4 PIN; LatestRevisionDate: 17-Jul-2002; LatestRevisionNote: Re-released for DXP Platform.; Publisher: Altium Limited
signal-integrity model Connector
footprint CON MOLEX 2X2 (Connector; Header; 2x2 Position, Minifit Jr, Horizontal)
pins: 1, 2, 3, 4

## CON Molex 2x4
designator Con?, comment CON
Molex 8 PIN; LatestRevisionDate: 17-Jul-2002; LatestRevisionNote: Re-released for DXP Platform.; Publisher: Altium Limited
signal-integrity model Connector
footprint CON MOLEX 2X4 (Connector; Header; 2x4 Position, Minifit Jr, Horizontal)
pins: 1, 2, 3, 4, 5, 6, 7, 8

## CON Molex 2x5
designator Con?, comment CON
Molex 10 PIN; LatestRevisionDate: 17-Jul-2002; LatestRevisionNote: Re-released for DXP Platform.; Publisher: Altium Limited
signal-integrity model Connector
footprint CON MOLEX 2X5 (Connector; Header; 2x5 Position, Minifit Jr, Horizontal)
pins: 1, 2, 3, 4, 5, 6, 7, 8, 9, 10

## CON Molex 2x8
designator Con?, comment CON
Molex 16 PIN; LatestRevisionDate: 17-Jul-2002; LatestRevisionNote: Re-released for DXP Platform.; Publisher: Altium Limited
signal-integrity model Connector
footprint CON MOLEX 2X8 (Connector; Header; 2x8 Position, Minifit Jr, Horizontal)
pins: 1, 2, 3, 4, 5, 6, 7, 8, 9, 10, 11, 12, 13, 14, 15, 16

## CON Molex 2x12
designator Con?, comment CON
Molex 24 PIN; LatestRevisionDate: 17-Jul-2002; LatestRevisionNote: Re-released for DXP Platform.; Publisher: Altium Limited
signal-integrity model Connector
footprint CON MOLEX 2X12 (Connector, Header, Mini-fit Jr, 2 x 12 pins, 4.2mm pitch)
pins: 1, 2, 3, 4, 5, 6, 7, 8, 9, 10, 11, 12, 13, 14, 15, 16, 17, 18, 19, 20, 21, 22, 23, 24

## CON Pad 1
designator Con?, comment CON Pad 1X5
Pad 5-Pin; LatestRevisionDate: 17-Jul-2002; LatestRevisionNote: Re-released for DXP Platform.; Publisher: Altium Limited
footprint CON PAD 1WAY (Square Pad)
pins: 1

## CON PAD 3.5mm - 10 Way
designator Con?, comment CON
Solder Pads, 10Way, 3.5mm; LatestRevisionDate: 17-Jul-2002; LatestRevisionNote: Re-released for DXP Platform.; Publisher: Altium Limited
footprint CON PAD 3.5mm - 10WAY (Pads 2mm pitch)
pins: 1, 2, 3, 4, 5, 6, 7, 8, 9, 10

## CON Pad 3x1
designator Con?, comment CON Pad 1X5
Pad 5-Pin; LatestRevisionDate: 17-Jul-2002; LatestRevisionNote: Re-released for DXP Platform.; Publisher: Altium Limited
footprint CON PAD 3WAY (Pads 3mm Pitch)
pins: 1, 2, 3

## CON Pad 5x1
designator Con?, comment CON Pad 1X5
Pad 5-Pin; LatestRevisionDate: 17-Jul-2002; LatestRevisionNote: Re-released for DXP Platform.; Publisher: Altium Limited
footprint Con Pad 5x1 (Rectangle Pads Connector 5 Way)
pins: 1, 2, 3, 4, 5

## CON Phoenix 5mm 2
designator Con?, comment CON
Phoenix 5mm, 2-Pin; LatestRevisionDate: 17-Jul-2002; LatestRevisionNote: Re-released for DXP Platform.; Publisher: Altium Limited
signal-integrity model Connector
footprint CON Phoenix 5mm 2 (Connector, Header, 2way, 5mm pitch)
footprint CON Phoenix 5mm 2H (Connector, Header, Right angle, 2way, 5mm pitch)
pins: 1, 2

## CON Phoenix 5mm 3
designator Con?, comment CON
Phoenix 5mm, 3-Pin; LatestRevisionDate: 17-Jul-2002; LatestRevisionNote: Re-released for DXP Platform.; Publisher: Altium Limited
footprint CON Phoenix 5mm 3 (Connector, Header, verticle, 3way, 5mm pitch)
signal-integrity model Connector
footprint CON Phoenix 5mm 3H (Connector, Header, Right angle, 3way, 5mm pitch)
pins: 1, 2, 3

## CON Phoenix 5mm 4
designator Con?, comment CON
Phoenix 5mm, 4-Pin; LatestRevisionDate: 17-Jul-2002; LatestRevisionNote: Re-released for DXP Platform.; Publisher: Altium Limited
footprint CON Phoenix 5mm 4 (Connector, Header, verticle, 4way, 5mm pitch)
signal-integrity model Connector
footprint CON Phoenix 5mm 4H (Connector, Header, Right angle, 4way, 5mm pitch)
pins: 1, 2, 3, 4

## CON Phoenix 5mm 6
designator Con?, comment CON
Phoenix 5mm, 6-Pin; LatestRevisionDate: 17-Jul-2002; LatestRevisionNote: Re-released for DXP Platform.; Publisher: Altium Limited
footprint CON Phoenix 5mm 6 (Connector, Header, verticle, 6way, 5mm pitch)
signal-integrity model Connector
footprint CON Phoenix 5mm 6H (Connector, Header, Right angle, 6way, 5mm pitch)
pins: 1, 2, 3, 4, 5, 6

## CON Phoenix 5mm 8
designator Con?, comment CON
Phoenix 5mm 8-Pin; LatestRevisionDate: 17-Jul-2002; LatestRevisionNote: Re-released for DXP Platform.; Publisher: Altium Limited
footprint CON Phoenix 5mm 8H (Connector, Header, Right angle, 8way, 5mm pitch)
signal-integrity model Connector
footprint CON Phoenix 5mm 8 (Connector, Header, 8way, 5mm pitch)
pins: 1, 2, 3, 4, 5, 6, 7, 8

## CON Phoenix 5mm 10
designator Con?, comment CON
Phoenix 5mm 10-Pin; LatestRevisionDate: 17-Jul-2002; LatestRevisionNote: Re-released for DXP Platform.; Publisher: Altium Limited
footprint CON Phoenix 5mm 10H (Connector, Header, Right angle, 12way, 5mm pitch)
signal-integrity model Connector
footprint CON Phoenix 5mm 10 (Connector, Header, Pluggable, 10WAY VERT BOX 5.08MM)
pins: 1, 2, 3, 4, 5, 6, 7, 8, 9, 10

## CON Phoenix 5mm 12
designator Con?, comment CON
Phoenix 5mm 12-Pin; LatestRevisionDate: 17-Jul-2002; LatestRevisionNote: Re-released for DXP Platform.; Publisher: Altium Limited
footprint CON Phoenix 5mm 12H (Connector, Header, Right angle, 12way, 5mm pitch)
signal-integrity model Connector
pins: 1, 2, 3, 4, 5, 6, 7, 8, 9, 10, 11, 12

## CON Prog AVR
designator Con?, comment Prog
Header, 6-Pin; LatestRevisionDate: 17-Jul-2002; LatestRevisionNote: Re-released for DXP Platform.; Publisher: Altium Limited
signal-integrity model Connector
footprint CON PROG AVR (Programming Connector)
pins: 1 MISO, 2 VCC, 3 SCL, 4 MOSI, 5 RST, 6 GND

## CON RCA Mono
designator Con?, comment RCA
footprint RCA K366L (RCA Right Angle, Thru-Hole)
pins: 1, 2

## CON RJ11 6H
designator Con?, comment CON
RJ11 6-Pin; LatestRevisionDate: 17-Jul-2002; LatestRevisionNote: Re-released for DXP Platform.; Publisher: Altium Limited
signal-integrity model Connector
footprint CON RJ11 VERT 6 (Connector, Header, Vertical: Lead Span 2.54mm; Lead Width 0.52; Pin Pitch 2.54; 2x3 Pins)
pins: 1, 2, 3, 4, 5, 6

## CON RS232
designator Con?, comment RS232
RS232 DB9; LatestRevisionDate: 17-Jul-2002; LatestRevisionNote: Re-released for DXP Platform.; Publisher: Altium Limited
signal-integrity model Connector
footprint CON RS232 IDC (Connector; IDC; 5x2 Position)
footprint CON DB9 Male (Connector, Dsub, 9-pin, Male)
footprint CON DB9 Female (Connector, Dsub, 9-pin, Female)
pins: 1 DCD (in), 2 Rx (in), 3 Tx (out), 4 DTR (in), 5 GND, 6 DSR (out), 7 RTS (in), 8 CTS (out), 9 RI (in)

## CON Shrouded 4way 2.5mm
designator Con?, comment CON Shrouded 1X4
Header, 4-Pin; LatestRevisionDate: 17-Jul-2002; LatestRevisionNote: Re-released for DXP Platform.; Publisher: Altium Limited
footprint HDR 2.5mm 4way (Connector; Header; 4 Position)
pins: 1, 2, 3, 4

## CON Term 2
designator Con?, comment Terminal Block
Terminal Block, 2-Pin; LatestRevisionDate: 17-Jul-2002; LatestRevisionNote: Re-released for DXP Platform.; Publisher: Altium Limited
signal-integrity model Connector
footprint CON Term 2 (5mm) (Terminal Block, 2 pin, 5.08mm)
pins: 1, 2

## CON Term 2 (2.5mm)
designator Con?, comment Terminal Block
Terminal Block, 2-Pin; LatestRevisionDate: 17-Jul-2002; LatestRevisionNote: Re-released for DXP Platform.; Publisher: Altium Limited
signal-integrity model Connector
footprint CON Term 2 (2.54mm) (Terminal Block, 2 pin, 2.54mm)
pins: 1, 2

## CON Term 3
designator Con?
Terminal Block 3-Pin; LatestRevisionDate: 17-Jul-2002; LatestRevisionNote: Re-released for DXP Platform.; Publisher: Altium Limited
signal-integrity model Connector
footprint CON Term 3 (Terminal Block, 3 pin, 5.08mm)
pins: 1, 2, 3

## CON Term 3 (2.54mm)
designator Con?
Terminal Block 3-Pin; LatestRevisionDate: 17-Jul-2002; LatestRevisionNote: Re-released for DXP Platform.; Publisher: Altium Limited
signal-integrity model Connector
footprint CON Term 3 (2.54mm) (Terminal Block, 3 pin, 2.54mm)
pins: 1, 2, 3

## CON Term 4
designator Con?, comment 5.08mm 4Way
Terminal Block, 4-Pin; LatestRevisionDate: 17-Jul-2002; LatestRevisionNote: Re-released for DXP Platform.; Publisher: Altium Limited
signal-integrity model Connector
footprint CON Term 4 (Terminal Block, 4 pin, 5.08mm)
pins: 1, 2, 3, 4

## CON Term 4 (2.54mm)
designator Con?, comment 2.54mm 4Way
Terminal Block, 4-Pin; LatestRevisionDate: 17-Jul-2002; LatestRevisionNote: Re-released for DXP Platform.; Publisher: Altium Limited
signal-integrity model Connector
footprint CON Term 4 (2.54mm) (Terminal Block, 3 pin, 2.54mm)
pins: 1, 2, 3, 4

## CON Term 5
designator Con?
Terminal Block 3-Pin; LatestRevisionDate: 17-Jul-2002; LatestRevisionNote: Re-released for DXP Platform.; Publisher: Altium Limited
signal-integrity model Connector
footprint CON Term 5 (Terminal Block, 3 pin, 5.08mm)
pins: 1, 2, 3, 4, 5

## CON Term 5 (2.54mm)
designator Con?
Terminal Block 3-Pin; LatestRevisionDate: 17-Jul-2002; LatestRevisionNote: Re-released for DXP Platform.; Publisher: Altium Limited
signal-integrity model Connector
footprint CON Term 5 (2.54mm) (Terminal Block, 3 pin, 2.54mm)
pins: 1, 2, 3, 4, 5

## CON Term 6 (3.5mm)
designator Con?, comment CON Term 5
Terminal Block 3-Pin; LatestRevisionDate: 17-Jul-2002; LatestRevisionNote: Re-released for DXP Platform.; Publisher: Altium Limited
signal-integrity model Connector
footprint Con Term 6 (3.5mm) (691322110006)
pins: 1, 2, 3, 4, 5, 6

## CON Term 12
designator Con?, comment Term12
Terminal Block 12-Pin; LatestRevisionDate: 17-Jul-2002; LatestRevisionNote: Re-released for DXP Platform.; Publisher: Altium Limited
footprint CON Term 12 (Terminal Block, 12 pin, 5.08mm)
signal-integrity model Connector
pins: 1, 2, 3, 4, 5, 6, 7, 8, 9, 10, 11, 12

## CON UFL SMT
designator Con?, comment UFL
UFL SMT, 2-Pin; LatestRevisionDate: 17-Jul-2002; LatestRevisionNote: Re-released for DXP Platform.; Publisher: Altium Limited
signal-integrity model Connector
footprint CON UFL SMT (Ultra Small SMD Coaxial Connector)
pins: 1 Sig, 2 Gnd

## CON USB
designator Con?, comment CON
USB CON; LatestRevisionDate: 17-Jul-2002; LatestRevisionNote: Re-released for DXP Platform.; Publisher: Altium Limited
signal-integrity model Connector
footprint CON USB A (Connector; USB1.1, Type A, Thru-Hole; 4 Position; Right Angle)
footprint CON USB B (Connector; USB1.1, Type B, Thru-Hole; 4 Position; Right Angle)
footprint CON USB B TYPE SMD
pins: 1 Vcc, 2 D-, 3 D+, 4 Gnd, 5 Gnd, 6 Gnd

## CON Wire to PCB 4
designator Con?, comment CON WIre 1X4
Header, 4-Pin; LatestRevisionDate: 17-Jul-2002; LatestRevisionNote: Re-released for DXP Platform.; Publisher: Altium Limited
signal-integrity model Connector
footprint CON Wire to PCB 4 (2.54mm) (Wire to PCB, 4 pin, 2.54mm)
pins: 1, 2, 3, 4

## CP2103-GM
designator IC?
USB 2 Uart TTL Bridge; Manufacturer_Name: Silicon Labs; Manufacturer_Part_Number: CP2103-GM; Allied_Number: R1015767; Datasheet Link: http://befr.rs-online.com/web/p/products/5269204; Height: 1mm; RS Part Number: 5269204; RS Price/Stock: http://befr.rs-online.com/web/p/products/5269204
footprint QFN50P500X500X100-29N-D
pins: 1 RI, 2 GND_1, 3 D+, 4 D-, 5 VIO, 6 VDD, 7 REGIN, 8 VBUS, 9 ~{RST}, 10 NC_1, 11 ~{SUSPEND}, 12 SUSPEND, 13 NC_2, 14 NC_3, 15 NC_4, 16 GPIO.3, 17 GPIO.2, 18 GPIO.1, 19 GPIO.0, 20 NC_5, 21 NC_6, 22 CTS, 23 RTS, 24 RXD, 25 TXD, 26 DSR, 27 DTR, 28 DCD, 29 GND_2

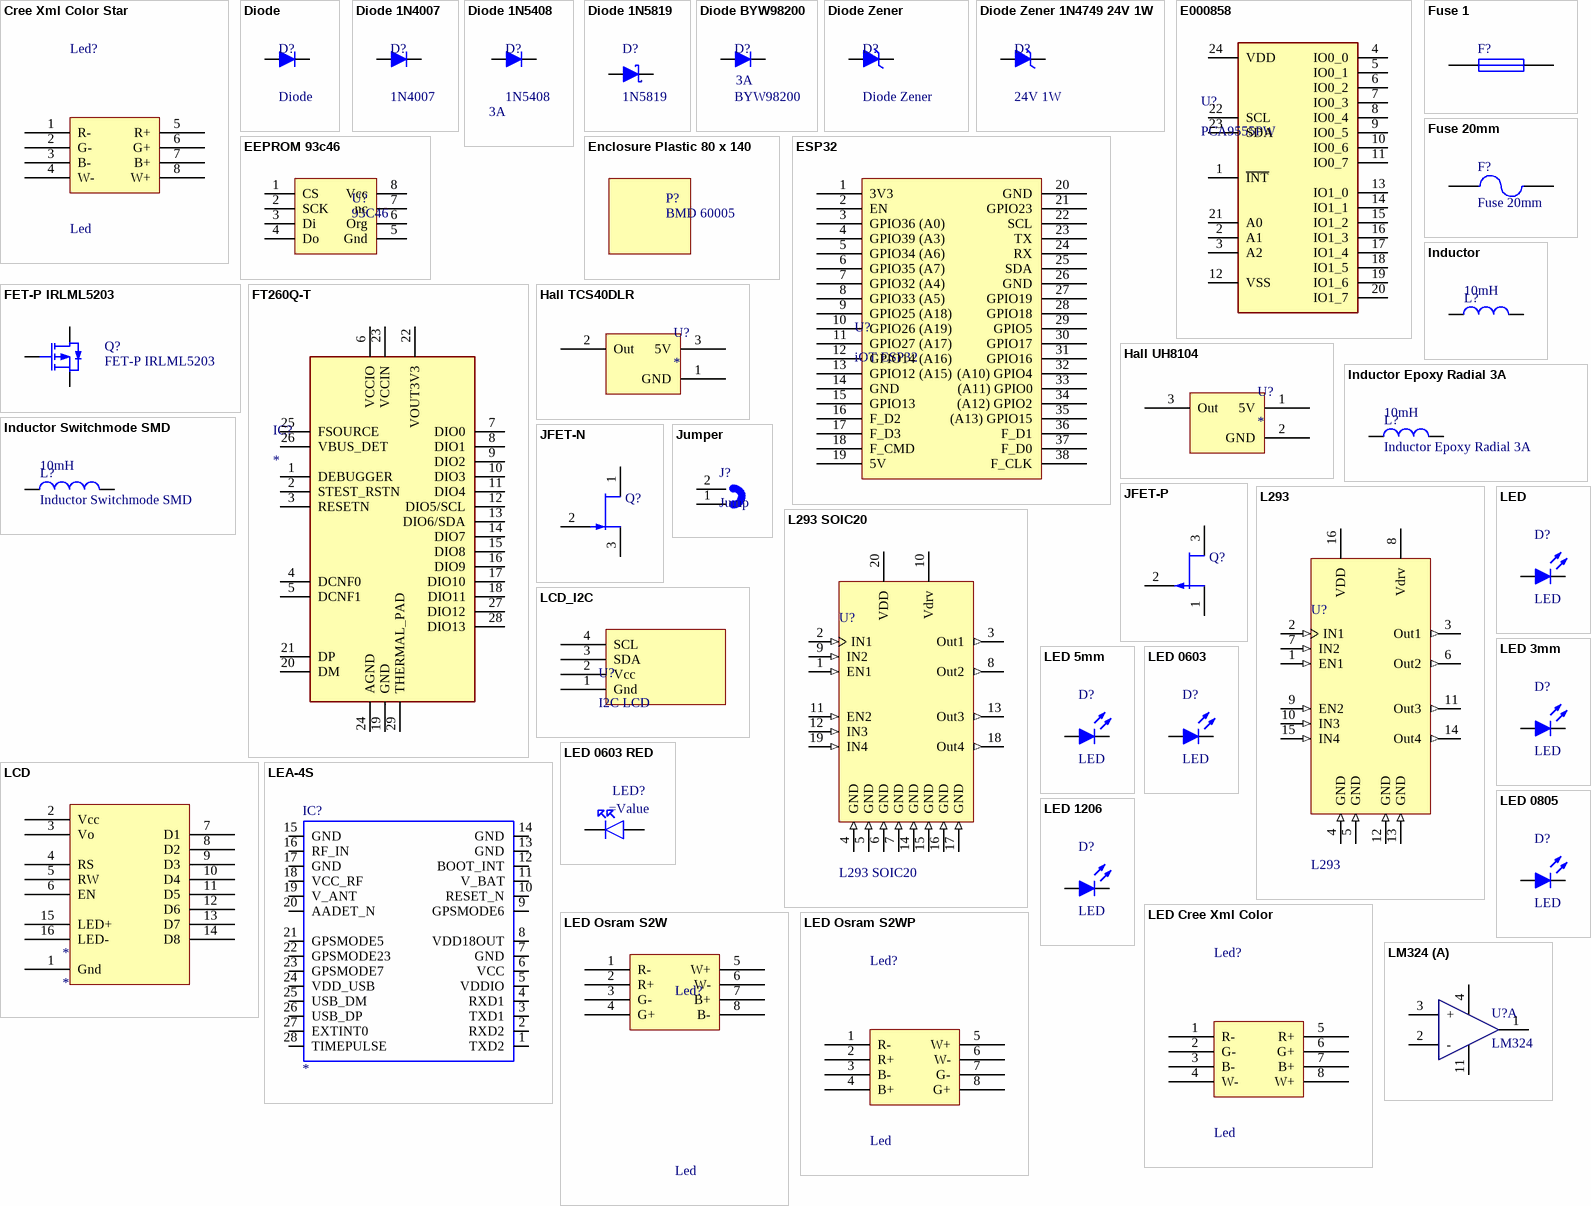
[diagram p3: symbols Cree Xml Color Star to LM324]

## Cree Xml Color Star
designator Led?, comment Led
Cree Heatsink; Published: 17-Jul-2002; LatestRevisionDate: 06-Jun-2005; LatestRevisionNote: Stylized 3D Model Added; DatasheetVersion: 1989; PackageReference: 632-08; Publisher: Altium Limited; PackageDescription: DIP; 14 Leads; Row Spacing 7.62 mm; Pitch 2.54 mm; ComponentLink1Description: Manufacturer Link; ComponentLink1URL: http://www.onsemi.com/site/products/parametrics/0,4446,557,00.html
footprint Model Name (Footprint not found)
footprint CREE XML STAR (Cree xml RGBW Heatsink)
footprint Con Pad 6way Dual (RGBW General Connection)
pins: 1 R-, 2 G-, 3 B-, 4 W-, 5 R+, 6 G+, 7 B+, 8 W+

## Diode
designator D?
Rectifier Diode; Published: 8-Jun-2000; LatestRevisionDate: 17-Jul-2002; LatestRevisionNote: Re-released for DXP Platform.; PackageReference: SMB; Publisher: Altium Limited; PackageDescription: DO-214-AA/SMB; 2 C-Bend Leads; Body 5.3 x 3.6 mm, inc. leads (LxW); Code_JEDEC: DO-214-AA
simulation model SKYDIODE (Diode)
signal-integrity model D Schottky
footprint DIODE 12MM (Diode, Axial, DO-41)
footprint Diode SMD 0.5w (Metal Electrode Face (MELF) Diode; Body 3.5 x 1.7 mm (LxDia))
footprint Diode SMD 0805 (0805 Diode)
footprint DIODE SMD 1210
footprint DIODE SMD 1808
footprint DIODE 10.16MM (Diode, Thru-Hole; 2 Leads; 0.4 in Pin Spacing)
pins: 1 A, 2 K

## Diode 1N4007
designator D?, comment 1N4007
Rectifier Diode; Published: 8-Jun-2000; LatestRevisionDate: 17-Jul-2002; LatestRevisionNote: Re-released for DXP Platform.; PackageReference: SMB; Publisher: Altium Limited; PackageDescription: DO-214-AA/SMB; 2 C-Bend Leads; Body 5.3 x 3.6 mm, inc. leads (LxW); Code_JEDEC: DO-214-AA
simulation model SKYDIODE (Diode)
signal-integrity model D Schottky
footprint DIODE 7MM (Diode, Thru-Hole; 2 Leads; 0.4 in Pin Spacing)
footprint DIODE 7MM Vert (Diode, Thru-Hole; 2 Leads; 0.4 in Pin Spacing)
pins: 1 A, 2 K

## Diode 1N5408
designator D?, comment 1N5408  value 3A
Rectifier Diode; Published: 8-Jun-2000; LatestRevisionDate: 17-Jul-2002; LatestRevisionNote: Re-released for DXP Platform.; PackageReference: SMB; Publisher: Altium Limited; PackageDescription: DO-214-AA/SMB; 2 C-Bend Leads; Body 5.3 x 3.6 mm, inc. leads (LxW); Code_JEDEC: DO-214-AA
footprint DIODE 12MM (Diode, Axial, DO-41)
footprint DIODE 7MM Vert (Diode, Thru-Hole; 2 Leads; 0.4 in Pin Spacing)
pins: 1 A, 2 K

## Diode 1N5819
designator D?, comment 1N5819
Diode Schottky; Published: 8-Jun-2000; LatestRevisionDate: 17-Jul-2002; LatestRevisionNote: Re-released for DXP Platform.; PackageReference: SMB; Publisher: Altium Limited; PackageDescription: DO-214-AA/SMB; 2 C-Bend Leads; Body 5.3 x 3.6 mm, inc. leads (LxW); Code_JEDEC: DO-214-AA
simulation model SKYDIODE (Diode)
signal-integrity model D Schottky
footprint DIODE 7MM (Diode, Thru-Hole; 2 Leads; 0.4 in Pin Spacing)
footprint DIODE SMD 1N5819 (DIODE SMD 1808)
pins: 1 A, 2 K